# Altium footprint library DISPLAY_TA08-81GWA.PcbLib: 1 footprints
Each footprint in its own frame and in the unit in brackets; x right, y up, seen from the top. Pads: shape width x height; smd on the part's side, far side on the other; paste and mask are expansions set on the pad; w line width, h text height; cw(c..) or ccw(c..) is an arc to the next point about the centre after c.
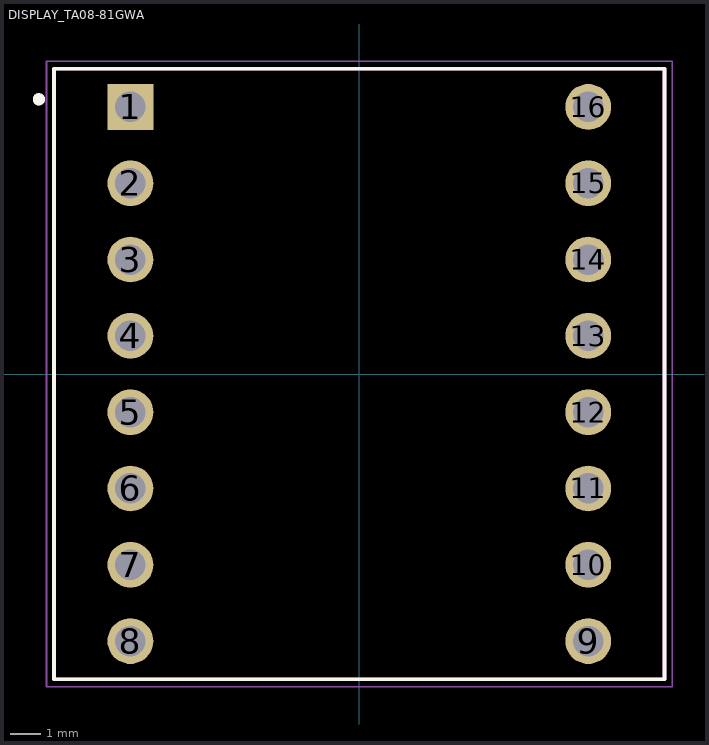
[diagram p0: the footprint, top view; thin cyan lines are the x and y axes]

## DISPLAY_TA08-81GWA [mm]
height 6
pads (16):
  rect 1.5x1.5 / inner round 1.5 / far side rect 1.5x1.5 hole 1: 1(-7.5,8.75)
  round 1.5 hole 1: 2(-7.5,6.25) 3(-7.5,3.75) 4(-7.5,1.25) 5(-7.5,-1.25) 6(-7.5,-3.75) 7(-7.5,-6.25) 8(-7.5,-8.75) 9(7.5,-8.75) 10(7.5,-6.25) 11(7.5,-3.75) 12(7.5,-1.25) 13(7.5,1.25) 14(7.5,3.75) 15(7.5,6.25) 16(7.5,8.75)
Top Overlay:
  circle w0.2: c-10.5,9 r0.1
  lines w0.127: -10,-10 -10,10 10,10 10,-10 -10,-10
Mechanical 13:
  circle w0.2: c-10.5,9 r0.1
  lines w0.127: -10,-10 -10,10 10,10 10,-10 -10,-10
Mechanical 15:
  lines w0.05: -10.25,-10.25 -10.25,10.25 10.25,10.25 10.25,-10.25 -10.25,-10.25
3D body "step_temp.STEP": height 6, standoff -4.5, extent -10,-10 10,10